# EAGLE library part DRV8844 (library myFab)
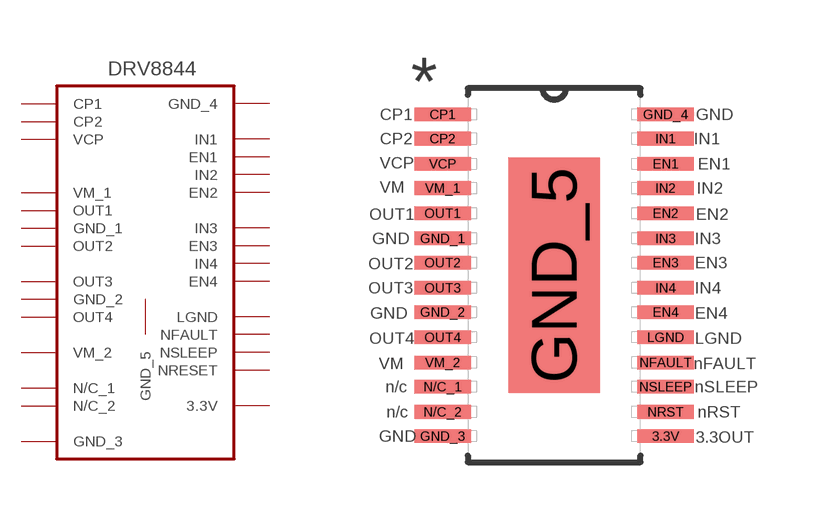
[diagram p13: symbol with the pads of DRV8844; footprint DRV8844]

Designator prefix -

## DRV8844  [DRV8844]
3.3V  3.3V  out
CP1  CP1
CP2  CP2
EN1  EN1  in
EN2  EN2  in
EN3  EN3  in
EN4  EN4  in
GND_1  GND_1
GND_2  GND_2
GND_3  GND_3  pas
GND_4  GND_4  pas
GND_5  GND_5  pas
IN1  IN1  in
IN2  IN2  in
IN3  IN3  in
IN4  IN4  in
LGND  LGND  in
N/C_1  N/C_1  in
N/C_2  N/C_2  in
NFAULT  NFAULT  in
NRST  NRESET  in
NSLEEP  NSLEEP  in
OUT1  OUT1  pwr
OUT2  OUT2  out
OUT3  OUT3  out
OUT4  OUT4  out
VCP  VCP
VM_1  VM_1  pwr
VM_2  VM_2  pwr

## Footprint DRV8844 (pad centres in mm)
smd 1.473 x 0.356: 3.3V 2.921,-4.216; CP1 -2.921,4.216; CP2 -2.921,3.581; EN1 2.921,2.921; EN2 2.921,1.626; EN3 2.921,0.33; EN4 2.921,-0.965; GND_1 -2.921,0.965; GND_2 -2.921,-0.965; GND_3 -2.921,-4.216; GND_4 2.921,4.216; IN1 2.921,3.581; IN2 2.921,2.286; IN3 2.921,0.965; IN4 2.921,-0.33; LGND 2.921,-1.626; N/C_1 -2.921,-2.921; N/C_2 -2.921,-3.581; NFAULT 2.921,-2.286; NRST 2.921,-3.581; NSLEEP 2.921,-2.921; OUT1 -2.921,1.626; OUT2 -2.921,0.33; OUT3 -2.921,-0.33; OUT4 -2.921,-1.626; VCP -2.921,2.921; VM_1 -2.921,2.286; VM_2 -2.921,-2.286
smd 2.388 x 6.172: GND_5 0,0